# Altium schematic symbol library kmilo17pet-NSC_Interface.SchLib: 1433 symbols (part 20 of 51)
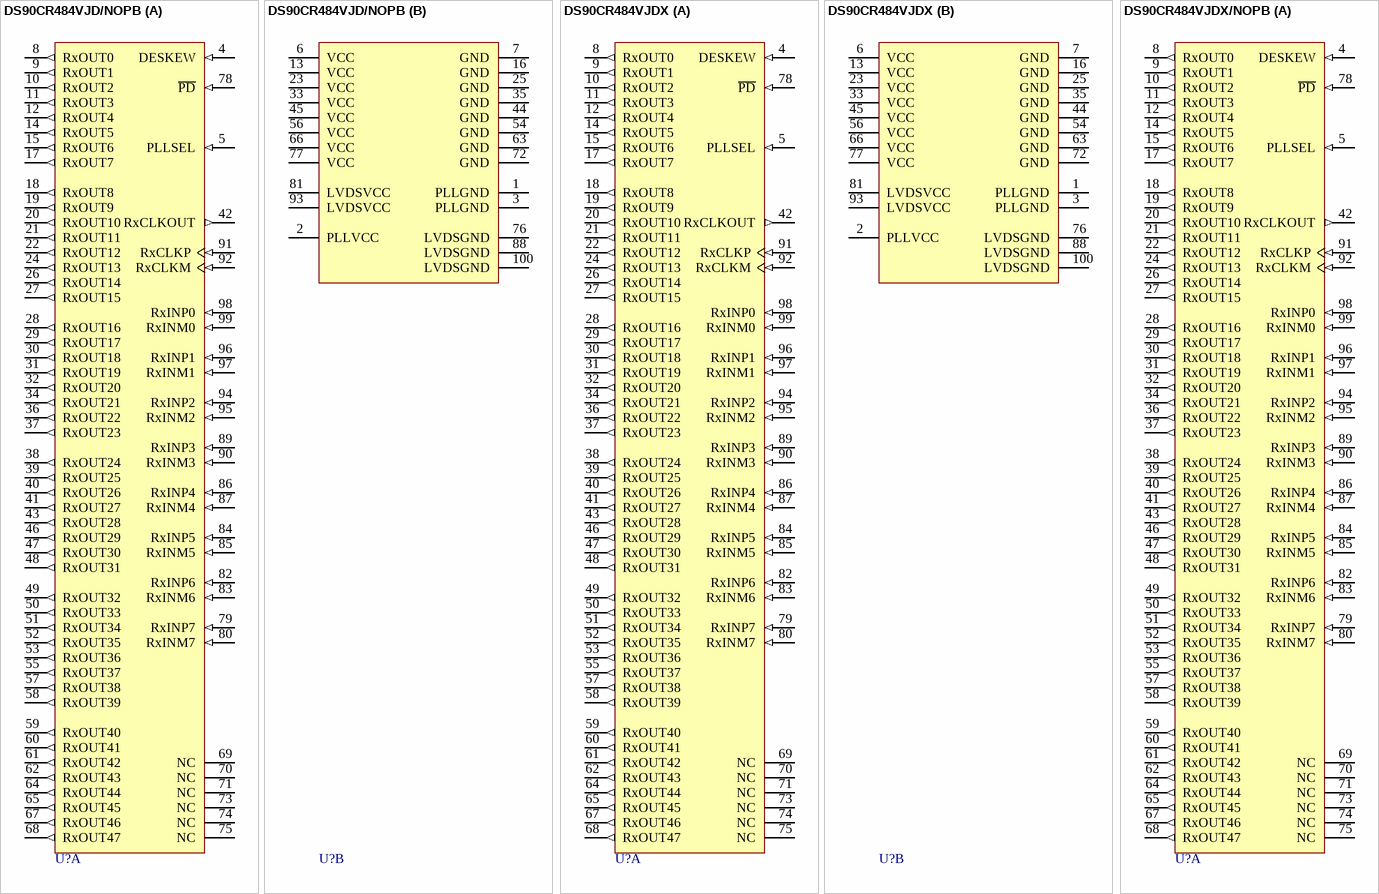
[diagram p143: symbols DS90CR484VJD/NOPB to DS90CR484VJDX/NOPB]

## DS90CR484VJD/NOPB
designator U?
48-Bit Channel Link Deserializer - 33-112MHz, 100 pin TQFP; PartNumber: DS90CR484VJD/NOPB; Manufacturer: National Semiconductor; PackageTopMarking: NS2ZXYYTTE#*DS90CR484VJD*BBBBB; PowerWise: N; CompType: Interface IC; High-Reliability: Y; DatasheetVersion: Mar-2004; PackageVersion: revC, May-2004; PackageReference: VJD100A; PackageDescription: TQFP, Jedec, Metric, 14 x 14 x 1.0mm, 100 Lead; RoHS: Y; PinCount: 100; Code_JEDEC: MS-026-AED; ComponentLink1Description: Manufacturer URL; ComponentLink1URL: http://www.national.com/; ComponentLink2Description: DS90CR484 Datasheet; ComponentLink2URL: http://www.national.com/ds/DS/DS90CR484.pdf; ComponentLink3Description: DS90CR484 Web Page; ComponentLink3URL: http://www.national.com/pf/DS/DS90CR484.html; ComponentLink4Description: VJD100A Package Page; ComponentLink4URL: http://www.national.com/packaging/folders/vjd100a.html
footprint VJD100A_N (Thin QFP, 100-Leads, Body 14x14mm, Pitch 0.5mm, IPC Medium Density)
footprint VJD100A_L (Thin QFP, 100-Leads, Body 14x14mm, Pitch 0.5mm, IPC High Density)
footprint VJD100A_M (Thin QFP, 100-Leads, Body 14x14mm, Pitch 0.5mm, IPC Low Density)
part A pins: 4 DESKEW (in), 5 PLLSEL (in), 8 RxOUT0 (out), 9 RxOUT1 (out), 10 RxOUT2 (out), 11 RxOUT3 (out), 12 RxOUT4 (out), 14 RxOUT5 (out), 15 RxOUT6 (out), 17 RxOUT7 (out), 18 RxOUT8 (out), 19 RxOUT9 (out), 20 RxOUT10 (out), 21 RxOUT11 (out), 22 RxOUT12 (out), 24 RxOUT13 (out), 26 RxOUT14 (out), 27 RxOUT15 (out), 28 RxOUT16 (out), 29 RxOUT17 (out), 30 RxOUT18 (out), 31 RxOUT19 (out), 32 RxOUT20 (out), 34 RxOUT21 (out), 36 RxOUT22 (out), 37 RxOUT23 (out), 38 RxOUT24 (out), 39 RxOUT25 (out), 40 RxOUT26 (out), 41 RxOUT27 (out), 42 RxCLKOUT (out), 43 RxOUT28 (out), 46 RxOUT29 (out), 47 RxOUT30 (out), 48 RxOUT31 (out), 49 RxOUT32 (out), 50 RxOUT33 (out), 51 RxOUT34 (out), 52 RxOUT35 (out), 53 RxOUT36 (out), 55 RxOUT37 (out), 57 RxOUT38 (out), 58 RxOUT39 (out), 59 RxOUT40 (out), 60 RxOUT41 (out), 61 RxOUT42 (out), 62 RxOUT43 (out), 64 RxOUT44 (out), 65 RxOUT45 (out), 67 RxOUT46 (out), 68 RxOUT47 (out), 69 NC, 70 NC, 71 NC, 73 NC, 74 NC, 75 NC, 78 ~{PD} (in), 79 RxINP7 (in), 80 RxINM7 (in), 82 RxINP6 (in), 83 RxINM6 (in), 84 RxINP5 (in), 85 RxINM5 (in), 86 RxINP4 (in), 87 RxINM4 (in), 89 RxINP3 (in), 90 RxINM3 (in), 91 RxCLKP (in), 92 RxCLKM (in), 94 RxINP2 (in), 95 RxINM2 (in), 96 RxINP1 (in), 97 RxINM1 (in), 98 RxINP0 (in), 99 RxINM0 (in)
part B pins: 1 PLLGND (power), 2 PLLVCC (power), 3 PLLGND (power), 6 VCC (power), 7 GND (power), 13 VCC (power), 16 GND (power), 23 VCC (power), 25 GND (power), 33 VCC (power), 35 GND (power), 44 GND (power), 45 VCC (power), 54 GND (power), 56 VCC (power), 63 GND (power), 66 VCC (power), 72 GND (power), 76 LVDSGND (power), 77 VCC (power), 81 LVDSVCC (power), 88 LVDSGND (power), 93 LVDSVCC (power), 100 LVDSGND (power)

## DS90CR484VJDX
designator U?
48-Bit Channel Link Deserializer - 33-112MHz, 100 pin TQFP; PartNumber: DS90CR484VJDX; Manufacturer: National Semiconductor; PackageTopMarking: NS2ZXYYTTE#*DS90CR484VJD*BBBBB; PowerWise: N; CompType: Interface IC; High-Reliability: Y; DatasheetVersion: Mar-2004; PackageVersion: revC, May-2004; PackageReference: VJD100A; PackageDescription: TQFP, Jedec, Metric, 14 x 14 x 1.0mm, 100 Lead; RoHS: N; PinCount: 100; Code_JEDEC: MS-026-AED; ComponentLink1Description: Manufacturer URL; ComponentLink1URL: http://www.national.com/; ComponentLink2Description: DS90CR484 Datasheet; ComponentLink2URL: http://www.national.com/ds/DS/DS90CR484.pdf; ComponentLink3Description: DS90CR484 Web Page; ComponentLink3URL: http://www.national.com/pf/DS/DS90CR484.html; ComponentLink4Description: VJD100A Package Page; ComponentLink4URL: http://www.national.com/packaging/folders/vjd100a.html
footprint VJD100A_N (Thin QFP, 100-Leads, Body 14x14mm, Pitch 0.5mm, IPC Medium Density)
footprint VJD100A_L (Thin QFP, 100-Leads, Body 14x14mm, Pitch 0.5mm, IPC High Density)
footprint VJD100A_M (Thin QFP, 100-Leads, Body 14x14mm, Pitch 0.5mm, IPC Low Density)
part A pins: 4 DESKEW (in), 5 PLLSEL (in), 8 RxOUT0 (out), 9 RxOUT1 (out), 10 RxOUT2 (out), 11 RxOUT3 (out), 12 RxOUT4 (out), 14 RxOUT5 (out), 15 RxOUT6 (out), 17 RxOUT7 (out), 18 RxOUT8 (out), 19 RxOUT9 (out), 20 RxOUT10 (out), 21 RxOUT11 (out), 22 RxOUT12 (out), 24 RxOUT13 (out), 26 RxOUT14 (out), 27 RxOUT15 (out), 28 RxOUT16 (out), 29 RxOUT17 (out), 30 RxOUT18 (out), 31 RxOUT19 (out), 32 RxOUT20 (out), 34 RxOUT21 (out), 36 RxOUT22 (out), 37 RxOUT23 (out), 38 RxOUT24 (out), 39 RxOUT25 (out), 40 RxOUT26 (out), 41 RxOUT27 (out), 42 RxCLKOUT (out), 43 RxOUT28 (out), 46 RxOUT29 (out), 47 RxOUT30 (out), 48 RxOUT31 (out), 49 RxOUT32 (out), 50 RxOUT33 (out), 51 RxOUT34 (out), 52 RxOUT35 (out), 53 RxOUT36 (out), 55 RxOUT37 (out), 57 RxOUT38 (out), 58 RxOUT39 (out), 59 RxOUT40 (out), 60 RxOUT41 (out), 61 RxOUT42 (out), 62 RxOUT43 (out), 64 RxOUT44 (out), 65 RxOUT45 (out), 67 RxOUT46 (out), 68 RxOUT47 (out), 69 NC, 70 NC, 71 NC, 73 NC, 74 NC, 75 NC, 78 ~{PD} (in), 79 RxINP7 (in), 80 RxINM7 (in), 82 RxINP6 (in), 83 RxINM6 (in), 84 RxINP5 (in), 85 RxINM5 (in), 86 RxINP4 (in), 87 RxINM4 (in), 89 RxINP3 (in), 90 RxINM3 (in), 91 RxCLKP (in), 92 RxCLKM (in), 94 RxINP2 (in), 95 RxINM2 (in), 96 RxINP1 (in), 97 RxINM1 (in), 98 RxINP0 (in), 99 RxINM0 (in)
part B pins: 1 PLLGND (power), 2 PLLVCC (power), 3 PLLGND (power), 6 VCC (power), 7 GND (power), 13 VCC (power), 16 GND (power), 23 VCC (power), 25 GND (power), 33 VCC (power), 35 GND (power), 44 GND (power), 45 VCC (power), 54 GND (power), 56 VCC (power), 63 GND (power), 66 VCC (power), 72 GND (power), 76 LVDSGND (power), 77 VCC (power), 81 LVDSVCC (power), 88 LVDSGND (power), 93 LVDSVCC (power), 100 LVDSGND (power)

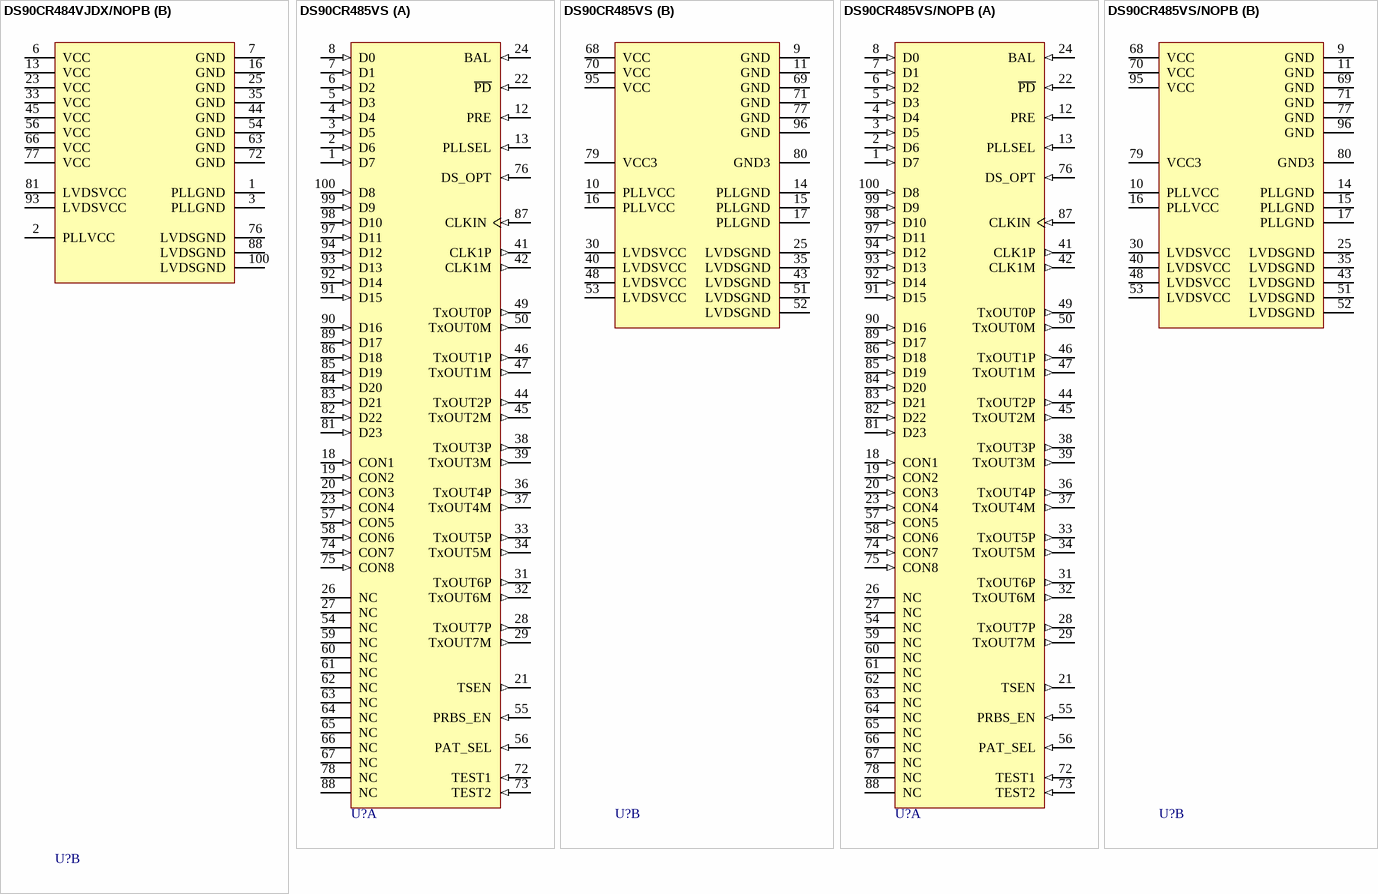
[diagram p56: symbols DS90CR484VJDX/NOPB to DS90CR485VS/NOPB]

## DS90CR484VJDX/NOPB
designator U?
48-Bit Channel Link Deserializer - 33-112MHz, 100 pin TQFP; PartNumber: DS90CR484VJDX/NOPB; Manufacturer: National Semiconductor; PackageTopMarking: NS2ZXYYTTE#*DS90CR484VJD*BBBBB; PowerWise: N; CompType: Interface IC; High-Reliability: Y; DatasheetVersion: Mar-2004; PackageVersion: revC, May-2004; PackageReference: VJD100A; PackageDescription: TQFP, Jedec, Metric, 14 x 14 x 1.0mm, 100 Lead; RoHS: Y; PinCount: 100; Code_JEDEC: MS-026-AED; ComponentLink1Description: Manufacturer URL; ComponentLink1URL: http://www.national.com/; ComponentLink2Description: DS90CR484 Datasheet; ComponentLink2URL: http://www.national.com/ds/DS/DS90CR484.pdf; ComponentLink3Description: DS90CR484 Web Page; ComponentLink3URL: http://www.national.com/pf/DS/DS90CR484.html; ComponentLink4Description: VJD100A Package Page; ComponentLink4URL: http://www.national.com/packaging/folders/vjd100a.html
footprint VJD100A_N (Thin QFP, 100-Leads, Body 14x14mm, Pitch 0.5mm, IPC Medium Density)
footprint VJD100A_L (Thin QFP, 100-Leads, Body 14x14mm, Pitch 0.5mm, IPC High Density)
footprint VJD100A_M (Thin QFP, 100-Leads, Body 14x14mm, Pitch 0.5mm, IPC Low Density)
part A pins: 4 DESKEW (in), 5 PLLSEL (in), 8 RxOUT0 (out), 9 RxOUT1 (out), 10 RxOUT2 (out), 11 RxOUT3 (out), 12 RxOUT4 (out), 14 RxOUT5 (out), 15 RxOUT6 (out), 17 RxOUT7 (out), 18 RxOUT8 (out), 19 RxOUT9 (out), 20 RxOUT10 (out), 21 RxOUT11 (out), 22 RxOUT12 (out), 24 RxOUT13 (out), 26 RxOUT14 (out), 27 RxOUT15 (out), 28 RxOUT16 (out), 29 RxOUT17 (out), 30 RxOUT18 (out), 31 RxOUT19 (out), 32 RxOUT20 (out), 34 RxOUT21 (out), 36 RxOUT22 (out), 37 RxOUT23 (out), 38 RxOUT24 (out), 39 RxOUT25 (out), 40 RxOUT26 (out), 41 RxOUT27 (out), 42 RxCLKOUT (out), 43 RxOUT28 (out), 46 RxOUT29 (out), 47 RxOUT30 (out), 48 RxOUT31 (out), 49 RxOUT32 (out), 50 RxOUT33 (out), 51 RxOUT34 (out), 52 RxOUT35 (out), 53 RxOUT36 (out), 55 RxOUT37 (out), 57 RxOUT38 (out), 58 RxOUT39 (out), 59 RxOUT40 (out), 60 RxOUT41 (out), 61 RxOUT42 (out), 62 RxOUT43 (out), 64 RxOUT44 (out), 65 RxOUT45 (out), 67 RxOUT46 (out), 68 RxOUT47 (out), 69 NC, 70 NC, 71 NC, 73 NC, 74 NC, 75 NC, 78 ~{PD} (in), 79 RxINP7 (in), 80 RxINM7 (in), 82 RxINP6 (in), 83 RxINM6 (in), 84 RxINP5 (in), 85 RxINM5 (in), 86 RxINP4 (in), 87 RxINM4 (in), 89 RxINP3 (in), 90 RxINM3 (in), 91 RxCLKP (in), 92 RxCLKM (in), 94 RxINP2 (in), 95 RxINM2 (in), 96 RxINP1 (in), 97 RxINM1 (in), 98 RxINP0 (in), 99 RxINM0 (in)
part B pins: 1 PLLGND (power), 2 PLLVCC (power), 3 PLLGND (power), 6 VCC (power), 7 GND (power), 13 VCC (power), 16 GND (power), 23 VCC (power), 25 GND (power), 33 VCC (power), 35 GND (power), 44 GND (power), 45 VCC (power), 54 GND (power), 56 VCC (power), 63 GND (power), 66 VCC (power), 72 GND (power), 76 LVDSGND (power), 77 VCC (power), 81 LVDSVCC (power), 88 LVDSGND (power), 93 LVDSVCC (power), 100 LVDSGND (power)

## DS90CR485VS
designator U?
133MHz LVDS 48-bit Channel Link Serializer, 100-pin TQFP; PartNumber: DS90CR485VS; Manufacturer: National Semiconductor; PackageTopMarking: NSUZXYYTTE#*DS90CR485VS*BBBBB; PowerWise: N; CompType: Interface IC; High-Reliability: Y; DatasheetVersion: Sep-2003; PackageVersion: revC, May-2004; PackageReference: VJD100A; PackageDescription: TQFP, Jedec, Metric, 14 x 14 x 1.0mm, 100 Lead; RoHS: N; PinCount: 100; Code_JEDEC: MS-026-AED; ComponentLink1Description: Manufacturer URL; ComponentLink1URL: http://www.national.com/; ComponentLink2Description: DS90CR485 Datasheet; ComponentLink2URL: http://www.national.com/ds/DS/DS90CR485.pdf; ComponentLink3Description: DS90CR485 Web Page; ComponentLink3URL: http://www.national.com/pf/DS/DS90CR485.html; ComponentLink4Description: VJD100A Package Page; ComponentLink4URL: http://www.national.com/packaging/folders/vjd100a.html
footprint VJD100A_N (Thin QFP, 100-Leads, Body 14x14mm, Pitch 0.5mm, IPC Medium Density)
footprint VJD100A_L (Thin QFP, 100-Leads, Body 14x14mm, Pitch 0.5mm, IPC High Density)
footprint VJD100A_M (Thin QFP, 100-Leads, Body 14x14mm, Pitch 0.5mm, IPC Low Density)
part A pins: 1 D7 (in), 2 D6 (in), 3 D5 (in), 4 D4 (in), 5 D3 (in), 6 D2 (in), 7 D1 (in), 8 D0 (in), 12 PRE (in), 13 PLLSEL (in), 18 CON1 (in), 19 CON2 (in), 20 CON3 (in), 21 TSEN (out), 22 ~{PD} (in), 23 CON4 (in), 24 BAL (in), 26 NC, 27 NC, 28 TxOUT7P (out), 29 TxOUT7M (out), 31 TxOUT6P (out), 32 TxOUT6M (out), 33 TxOUT5P (out), 34 TxOUT5M (out), 36 TxOUT4P (out), 37 TxOUT4M (out), 38 TxOUT3P (out), 39 TxOUT3M (out), 41 CLK1P (out), 42 CLK1M (out), 44 TxOUT2P (out), 45 TxOUT2M (out), 46 TxOUT1P (out), 47 TxOUT1M (out), 49 TxOUT0P (out), 50 TxOUT0M (out), 54 NC, 55 PRBS_EN (in), 56 PAT_SEL (in), 57 CON5 (in), 58 CON6 (in), 59 NC, 60 NC, 61 NC, 62 NC, 63 NC, 64 NC, 65 NC, 66 NC, 67 NC, 72 TEST1 (in), 73 TEST2 (in), 74 CON7 (in), 75 CON8 (in), 76 DS_OPT (in), 78 NC, 81 D23 (in), 82 D22 (in), 83 D21 (in), 84 D20 (in), 85 D19 (in), 86 D18 (in), 87 CLKIN (in), 88 NC, 89 D17 (in), 90 D16 (in), 91 D15 (in), 92 D14 (in), 93 D13 (in), 94 D12 (in), 97 D11 (in), 98 D10 (in), 99 D9 (in), 100 D8 (in)
part B pins: 9 GND (power), 10 PLLVCC (power), 11 GND (power), 14 PLLGND (power), 15 PLLGND (power), 16 PLLVCC (power), 17 PLLGND (power), 25 LVDSGND (power), 30 LVDSVCC (power), 35 LVDSGND (power), 40 LVDSVCC (power), 43 LVDSGND (power), 48 LVDSVCC (power), 51 LVDSGND (power), 52 LVDSGND (power), 53 LVDSVCC (power), 68 VCC (power), 69 GND (power), 70 VCC (power), 71 GND (power), 77 GND (power), 79 VCC3 (power), 80 GND3 (power), 95 VCC (power), 96 GND (power)

## DS90CR485VS/NOPB
designator U?
133MHz LVDS 48-bit Channel Link Serializer, 100-pin TQFP, Pb-Free; PartNumber: DS90CR485VS/NOPB; Manufacturer: National Semiconductor; PackageTopMarking: NSUZXYYTTE#*DS90CR485VS*BBBBB; PowerWise: N; CompType: Interface IC; High-Reliability: Y; DatasheetVersion: Sep-2003; PackageVersion: revC, May-2004; PackageReference: VJD100A; PackageDescription: TQFP, Jedec, Metric, 14 x 14 x 1.0mm, 100 Lead; RoHS: Y; PinCount: 100; Code_JEDEC: MS-026-AED; ComponentLink1Description: Manufacturer URL; ComponentLink1URL: http://www.national.com/; ComponentLink2Description: DS90CR485 Datasheet; ComponentLink2URL: http://www.national.com/ds/DS/DS90CR485.pdf; ComponentLink3Description: DS90CR485 Web Page; ComponentLink3URL: http://www.national.com/pf/DS/DS90CR485.html; ComponentLink4Description: VJD100A Package Page; ComponentLink4URL: http://www.national.com/packaging/folders/vjd100a.html
footprint VJD100A_N (Thin QFP, 100-Leads, Body 14x14mm, Pitch 0.5mm, IPC Medium Density)
footprint VJD100A_L (Thin QFP, 100-Leads, Body 14x14mm, Pitch 0.5mm, IPC High Density)
footprint VJD100A_M (Thin QFP, 100-Leads, Body 14x14mm, Pitch 0.5mm, IPC Low Density)
part A pins: 1 D7 (in), 2 D6 (in), 3 D5 (in), 4 D4 (in), 5 D3 (in), 6 D2 (in), 7 D1 (in), 8 D0 (in), 12 PRE (in), 13 PLLSEL (in), 18 CON1 (in), 19 CON2 (in), 20 CON3 (in), 21 TSEN (out), 22 ~{PD} (in), 23 CON4 (in), 24 BAL (in), 26 NC, 27 NC, 28 TxOUT7P (out), 29 TxOUT7M (out), 31 TxOUT6P (out), 32 TxOUT6M (out), 33 TxOUT5P (out), 34 TxOUT5M (out), 36 TxOUT4P (out), 37 TxOUT4M (out), 38 TxOUT3P (out), 39 TxOUT3M (out), 41 CLK1P (out), 42 CLK1M (out), 44 TxOUT2P (out), 45 TxOUT2M (out), 46 TxOUT1P (out), 47 TxOUT1M (out), 49 TxOUT0P (out), 50 TxOUT0M (out), 54 NC, 55 PRBS_EN (in), 56 PAT_SEL (in), 57 CON5 (in), 58 CON6 (in), 59 NC, 60 NC, 61 NC, 62 NC, 63 NC, 64 NC, 65 NC, 66 NC, 67 NC, 72 TEST1 (in), 73 TEST2 (in), 74 CON7 (in), 75 CON8 (in), 76 DS_OPT (in), 78 NC, 81 D23 (in), 82 D22 (in), 83 D21 (in), 84 D20 (in), 85 D19 (in), 86 D18 (in), 87 CLKIN (in), 88 NC, 89 D17 (in), 90 D16 (in), 91 D15 (in), 92 D14 (in), 93 D13 (in), 94 D12 (in), 97 D11 (in), 98 D10 (in), 99 D9 (in), 100 D8 (in)
part B pins: 9 GND (power), 10 PLLVCC (power), 11 GND (power), 14 PLLGND (power), 15 PLLGND (power), 16 PLLVCC (power), 17 PLLGND (power), 25 LVDSGND (power), 30 LVDSVCC (power), 35 LVDSGND (power), 40 LVDSVCC (power), 43 LVDSGND (power), 48 LVDSVCC (power), 51 LVDSGND (power), 52 LVDSGND (power), 53 LVDSVCC (power), 68 VCC (power), 69 GND (power), 70 VCC (power), 71 GND (power), 77 GND (power), 79 VCC3 (power), 80 GND3 (power), 95 VCC (power), 96 GND (power)

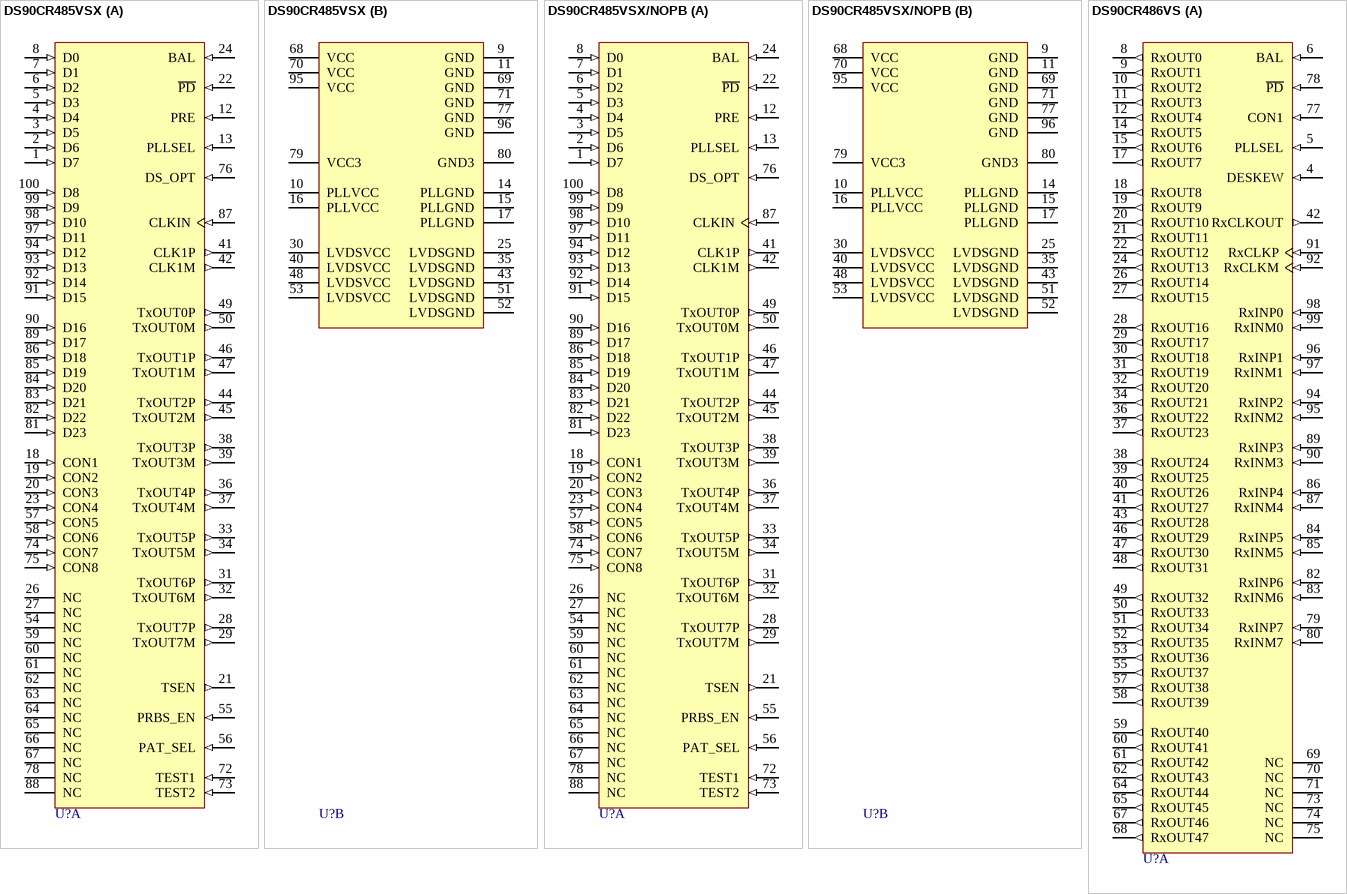
[diagram p57: symbols DS90CR485VSX to DS90CR486VS]

## DS90CR485VSX
designator U?
133MHz LVDS 48-bit Channel Link Serializer, 100-pin TQFP; PartNumber: DS90CR485VSX; Manufacturer: National Semiconductor; PackageTopMarking: NSUZXYYTTE#*DS90CR485VS*BBBBB; PowerWise: N; CompType: Interface IC; High-Reliability: Y; DatasheetVersion: Sep-2003; PackageVersion: revC, May-2004; PackageReference: VJD100A; PackageDescription: TQFP, Jedec, Metric, 14 x 14 x 1.0mm, 100 Lead; RoHS: N; PinCount: 100; Code_JEDEC: MS-026-AED; ComponentLink1Description: Manufacturer URL; ComponentLink1URL: http://www.national.com/; ComponentLink2Description: DS90CR485 Datasheet; ComponentLink2URL: http://www.national.com/ds/DS/DS90CR485.pdf; ComponentLink3Description: DS90CR485 Web Page; ComponentLink3URL: http://www.national.com/pf/DS/DS90CR485.html; ComponentLink4Description: VJD100A Package Page; ComponentLink4URL: http://www.national.com/packaging/folders/vjd100a.html
footprint VJD100A_N (Thin QFP, 100-Leads, Body 14x14mm, Pitch 0.5mm, IPC Medium Density)
footprint VJD100A_L (Thin QFP, 100-Leads, Body 14x14mm, Pitch 0.5mm, IPC High Density)
footprint VJD100A_M (Thin QFP, 100-Leads, Body 14x14mm, Pitch 0.5mm, IPC Low Density)
part A pins: 1 D7 (in), 2 D6 (in), 3 D5 (in), 4 D4 (in), 5 D3 (in), 6 D2 (in), 7 D1 (in), 8 D0 (in), 12 PRE (in), 13 PLLSEL (in), 18 CON1 (in), 19 CON2 (in), 20 CON3 (in), 21 TSEN (out), 22 ~{PD} (in), 23 CON4 (in), 24 BAL (in), 26 NC, 27 NC, 28 TxOUT7P (out), 29 TxOUT7M (out), 31 TxOUT6P (out), 32 TxOUT6M (out), 33 TxOUT5P (out), 34 TxOUT5M (out), 36 TxOUT4P (out), 37 TxOUT4M (out), 38 TxOUT3P (out), 39 TxOUT3M (out), 41 CLK1P (out), 42 CLK1M (out), 44 TxOUT2P (out), 45 TxOUT2M (out), 46 TxOUT1P (out), 47 TxOUT1M (out), 49 TxOUT0P (out), 50 TxOUT0M (out), 54 NC, 55 PRBS_EN (in), 56 PAT_SEL (in), 57 CON5 (in), 58 CON6 (in), 59 NC, 60 NC, 61 NC, 62 NC, 63 NC, 64 NC, 65 NC, 66 NC, 67 NC, 72 TEST1 (in), 73 TEST2 (in), 74 CON7 (in), 75 CON8 (in), 76 DS_OPT (in), 78 NC, 81 D23 (in), 82 D22 (in), 83 D21 (in), 84 D20 (in), 85 D19 (in), 86 D18 (in), 87 CLKIN (in), 88 NC, 89 D17 (in), 90 D16 (in), 91 D15 (in), 92 D14 (in), 93 D13 (in), 94 D12 (in), 97 D11 (in), 98 D10 (in), 99 D9 (in), 100 D8 (in)
part B pins: 9 GND (power), 10 PLLVCC (power), 11 GND (power), 14 PLLGND (power), 15 PLLGND (power), 16 PLLVCC (power), 17 PLLGND (power), 25 LVDSGND (power), 30 LVDSVCC (power), 35 LVDSGND (power), 40 LVDSVCC (power), 43 LVDSGND (power), 48 LVDSVCC (power), 51 LVDSGND (power), 52 LVDSGND (power), 53 LVDSVCC (power), 68 VCC (power), 69 GND (power), 70 VCC (power), 71 GND (power), 77 GND (power), 79 VCC3 (power), 80 GND3 (power), 95 VCC (power), 96 GND (power)

## DS90CR485VSX/NOPB
designator U?
133MHz LVDS 48-bit Channel Link Serializer, 100-pin TQFP, Pb-Free; PartNumber: DS90CR485VSX/NOPB; Manufacturer: National Semiconductor; PackageTopMarking: NSUZXYYTTE#*DS90CR485VS*BBBBB; PowerWise: N; CompType: Interface IC; High-Reliability: Y; DatasheetVersion: Sep-2003; PackageVersion: revC, May-2004; PackageReference: VJD100A; PackageDescription: TQFP, Jedec, Metric, 14 x 14 x 1.0mm, 100 Lead; RoHS: Y; PinCount: 100; Code_JEDEC: MS-026-AED; ComponentLink1Description: Manufacturer URL; ComponentLink1URL: http://www.national.com/; ComponentLink2Description: DS90CR485 Datasheet; ComponentLink2URL: http://www.national.com/ds/DS/DS90CR485.pdf; ComponentLink3Description: DS90CR485 Web Page; ComponentLink3URL: http://www.national.com/pf/DS/DS90CR485.html; ComponentLink4Description: VJD100A Package Page; ComponentLink4URL: http://www.national.com/packaging/folders/vjd100a.html
footprint VJD100A_N (Thin QFP, 100-Leads, Body 14x14mm, Pitch 0.5mm, IPC Medium Density)
footprint VJD100A_L (Thin QFP, 100-Leads, Body 14x14mm, Pitch 0.5mm, IPC High Density)
footprint VJD100A_M (Thin QFP, 100-Leads, Body 14x14mm, Pitch 0.5mm, IPC Low Density)
part A pins: 1 D7 (in), 2 D6 (in), 3 D5 (in), 4 D4 (in), 5 D3 (in), 6 D2 (in), 7 D1 (in), 8 D0 (in), 12 PRE (in), 13 PLLSEL (in), 18 CON1 (in), 19 CON2 (in), 20 CON3 (in), 21 TSEN (out), 22 ~{PD} (in), 23 CON4 (in), 24 BAL (in), 26 NC, 27 NC, 28 TxOUT7P (out), 29 TxOUT7M (out), 31 TxOUT6P (out), 32 TxOUT6M (out), 33 TxOUT5P (out), 34 TxOUT5M (out), 36 TxOUT4P (out), 37 TxOUT4M (out), 38 TxOUT3P (out), 39 TxOUT3M (out), 41 CLK1P (out), 42 CLK1M (out), 44 TxOUT2P (out), 45 TxOUT2M (out), 46 TxOUT1P (out), 47 TxOUT1M (out), 49 TxOUT0P (out), 50 TxOUT0M (out), 54 NC, 55 PRBS_EN (in), 56 PAT_SEL (in), 57 CON5 (in), 58 CON6 (in), 59 NC, 60 NC, 61 NC, 62 NC, 63 NC, 64 NC, 65 NC, 66 NC, 67 NC, 72 TEST1 (in), 73 TEST2 (in), 74 CON7 (in), 75 CON8 (in), 76 DS_OPT (in), 78 NC, 81 D23 (in), 82 D22 (in), 83 D21 (in), 84 D20 (in), 85 D19 (in), 86 D18 (in), 87 CLKIN (in), 88 NC, 89 D17 (in), 90 D16 (in), 91 D15 (in), 92 D14 (in), 93 D13 (in), 94 D12 (in), 97 D11 (in), 98 D10 (in), 99 D9 (in), 100 D8 (in)
part B pins: 9 GND (power), 10 PLLVCC (power), 11 GND (power), 14 PLLGND (power), 15 PLLGND (power), 16 PLLVCC (power), 17 PLLGND (power), 25 LVDSGND (power), 30 LVDSVCC (power), 35 LVDSGND (power), 40 LVDSVCC (power), 43 LVDSGND (power), 48 LVDSVCC (power), 51 LVDSGND (power), 52 LVDSGND (power), 53 LVDSVCC (power), 68 VCC (power), 69 GND (power), 70 VCC (power), 71 GND (power), 77 GND (power), 79 VCC3 (power), 80 GND3 (power), 95 VCC (power), 96 GND (power)

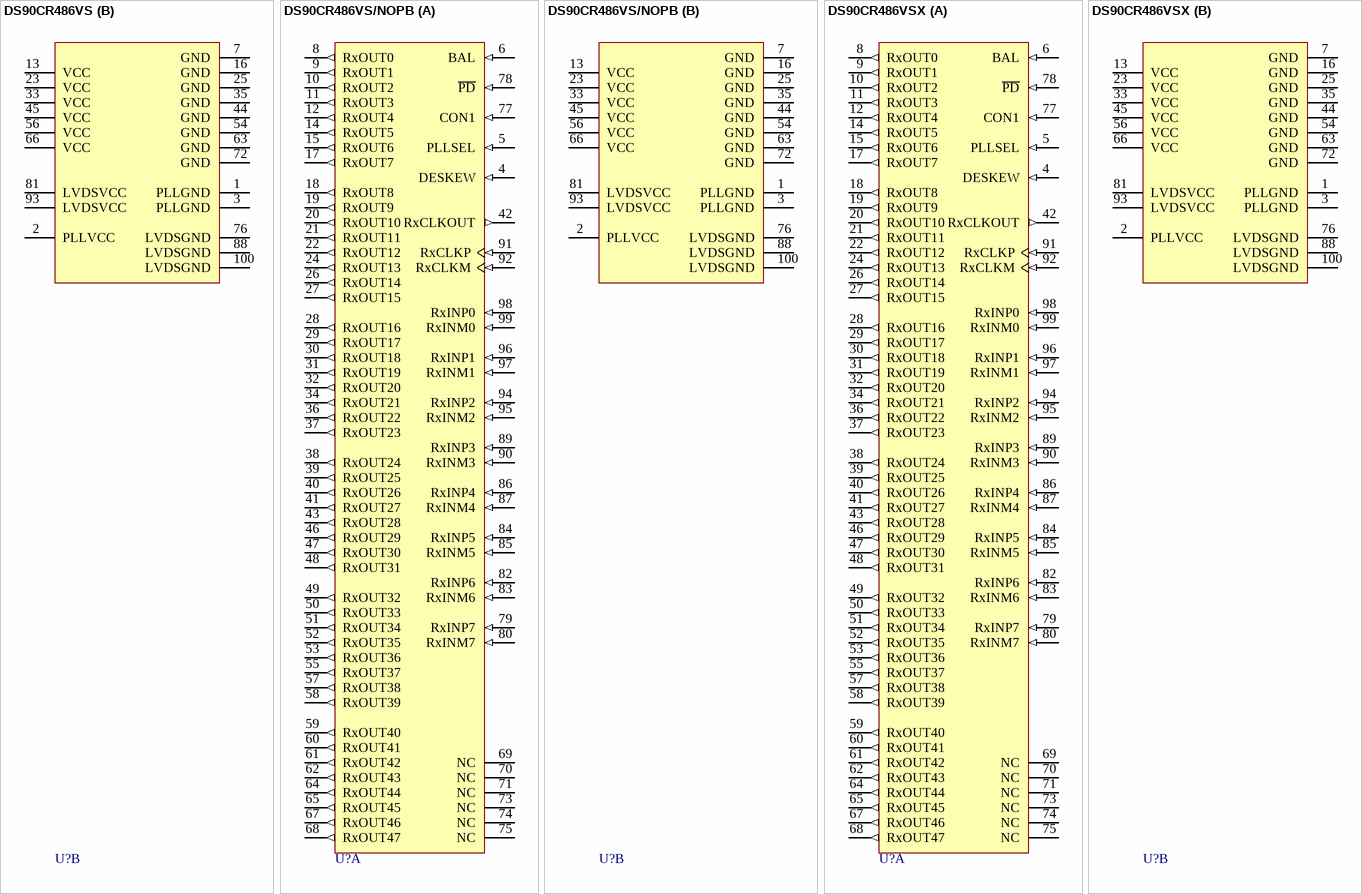
[diagram p58: symbols DS90CR486VS to DS90CR486VSX]

## DS90CR486VS
designator U?
Deserializer, 100-pin TQFP; PartNumber: DS90CR486VS; Manufacturer: National Semiconductor; PackageTopMarking: NS2ZXYYTTE#*DS90CR486VS*BBBBB; PowerWise: N; CompType: Interface IC; High-Reliability: Y; DatasheetVersion: Nov-2006; PackageVersion: revC, May-2004; PackageReference: VJD100A; PackageDescription: TQFP, Jedec, Metric, 14 x 14 x 1.0mm, 100 Lead; RoHS: N; PinCount: 100; Code_JEDEC: MS-026-AED; ComponentLink1Description: Manufacturer URL; ComponentLink1URL: http://www.national.com/; ComponentLink2Description: DS90CR486 Datasheet; ComponentLink2URL: http://www.national.com/ds/DS/DS90CR486.pdf; ComponentLink3Description: DS90CR486 Web Page; ComponentLink3URL: http://www.national.com/pf/DS/DS90CR486.html; ComponentLink4Description: VJD100A Package Page; ComponentLink4URL: http://www.national.com/packaging/folders/vjd100a.html
footprint VJD100A_N (Thin QFP, 100-Leads, Body 14x14mm, Pitch 0.5mm, IPC Medium Density)
footprint VJD100A_L (Thin QFP, 100-Leads, Body 14x14mm, Pitch 0.5mm, IPC High Density)
footprint VJD100A_M (Thin QFP, 100-Leads, Body 14x14mm, Pitch 0.5mm, IPC Low Density)
part A pins: 4 DESKEW (in), 5 PLLSEL (in), 6 BAL (in), 8 RxOUT0 (out), 9 RxOUT1 (out), 10 RxOUT2 (out), 11 RxOUT3 (out), 12 RxOUT4 (out), 14 RxOUT5 (out), 15 RxOUT6 (out), 17 RxOUT7 (out), 18 RxOUT8 (out), 19 RxOUT9 (out), 20 RxOUT10 (out), 21 RxOUT11 (out), 22 RxOUT12 (out), 24 RxOUT13 (out), 26 RxOUT14 (out), 27 RxOUT15 (out), 28 RxOUT16 (out), 29 RxOUT17 (out), 30 RxOUT18 (out), 31 RxOUT19 (out), 32 RxOUT20 (out), 34 RxOUT21 (out), 36 RxOUT22 (out), 37 RxOUT23 (out), 38 RxOUT24 (out), 39 RxOUT25 (out), 40 RxOUT26 (out), 41 RxOUT27 (out), 42 RxCLKOUT (out), 43 RxOUT28 (out), 46 RxOUT29 (out), 47 RxOUT30 (out), 48 RxOUT31 (out), 49 RxOUT32 (out), 50 RxOUT33 (out), 51 RxOUT34 (out), 52 RxOUT35 (out), 53 RxOUT36 (out), 55 RxOUT37 (out), 57 RxOUT38 (out), 58 RxOUT39 (out), 59 RxOUT40 (out), 60 RxOUT41 (out), 61 RxOUT42 (out), 62 RxOUT43 (out), 64 RxOUT44 (out), 65 RxOUT45 (out), 67 RxOUT46 (out), 68 RxOUT47 (out), 69 NC, 70 NC, 71 NC, 73 NC, 74 NC, 75 NC, 77 CON1 (in), 78 ~{PD} (in), 79 RxINP7 (in), 80 RxINM7 (in), 82 RxINP6 (in), 83 RxINM6 (in), 84 RxINP5 (in), 85 RxINM5 (in), 86 RxINP4 (in), 87 RxINM4 (in), 89 RxINP3 (in), 90 RxINM3 (in), 91 RxCLKP (in), 92 RxCLKM (in), 94 RxINP2 (in), 95 RxINM2 (in), 96 RxINP1 (in), 97 RxINM1 (in), 98 RxINP0 (in), 99 RxINM0 (in)
part B pins: 1 PLLGND (power), 2 PLLVCC (power), 3 PLLGND (power), 7 GND (power), 13 VCC (power), 16 GND (power), 23 VCC (power), 25 GND (power), 33 VCC (power), 35 GND (power), 44 GND (power), 45 VCC (power), 54 GND (power), 56 VCC (power), 63 GND (power), 66 VCC (power), 72 GND (power), 76 LVDSGND (power), 81 LVDSVCC (power), 88 LVDSGND (power), 93 LVDSVCC (power), 100 LVDSGND (power)

## DS90CR486VS/NOPB
designator U?
Deserializer, 100-pin TQFP, Pb-Free; PartNumber: DS90CR486VS/NOPB; Manufacturer: National Semiconductor; PackageTopMarking: NS2ZXYYTTE#*DS90CR486VS*BBBBB; PowerWise: N; CompType: Interface IC; High-Reliability: Y; DatasheetVersion: Nov-2006; PackageVersion: revC, May-2004; PackageReference: VJD100A; PackageDescription: TQFP, Jedec, Metric, 14 x 14 x 1.0mm, 100 Lead; RoHS: Y; PinCount: 100; Code_JEDEC: MS-026-AED; ComponentLink1Description: Manufacturer URL; ComponentLink1URL: http://www.national.com/; ComponentLink2Description: DS90CR486 Datasheet; ComponentLink2URL: http://www.national.com/ds/DS/DS90CR486.pdf; ComponentLink3Description: DS90CR486 Web Page; ComponentLink3URL: http://www.national.com/pf/DS/DS90CR486.html; ComponentLink4Description: VJD100A Package Page; ComponentLink4URL: http://www.national.com/packaging/folders/vjd100a.html
footprint VJD100A_N (Thin QFP, 100-Leads, Body 14x14mm, Pitch 0.5mm, IPC Medium Density)
footprint VJD100A_L (Thin QFP, 100-Leads, Body 14x14mm, Pitch 0.5mm, IPC High Density)
footprint VJD100A_M (Thin QFP, 100-Leads, Body 14x14mm, Pitch 0.5mm, IPC Low Density)
part A pins: 4 DESKEW (in), 5 PLLSEL (in), 6 BAL (in), 8 RxOUT0 (out), 9 RxOUT1 (out), 10 RxOUT2 (out), 11 RxOUT3 (out), 12 RxOUT4 (out), 14 RxOUT5 (out), 15 RxOUT6 (out), 17 RxOUT7 (out), 18 RxOUT8 (out), 19 RxOUT9 (out), 20 RxOUT10 (out), 21 RxOUT11 (out), 22 RxOUT12 (out), 24 RxOUT13 (out), 26 RxOUT14 (out), 27 RxOUT15 (out), 28 RxOUT16 (out), 29 RxOUT17 (out), 30 RxOUT18 (out), 31 RxOUT19 (out), 32 RxOUT20 (out), 34 RxOUT21 (out), 36 RxOUT22 (out), 37 RxOUT23 (out), 38 RxOUT24 (out), 39 RxOUT25 (out), 40 RxOUT26 (out), 41 RxOUT27 (out), 42 RxCLKOUT (out), 43 RxOUT28 (out), 46 RxOUT29 (out), 47 RxOUT30 (out), 48 RxOUT31 (out), 49 RxOUT32 (out), 50 RxOUT33 (out), 51 RxOUT34 (out), 52 RxOUT35 (out), 53 RxOUT36 (out), 55 RxOUT37 (out), 57 RxOUT38 (out), 58 RxOUT39 (out), 59 RxOUT40 (out), 60 RxOUT41 (out), 61 RxOUT42 (out), 62 RxOUT43 (out), 64 RxOUT44 (out), 65 RxOUT45 (out), 67 RxOUT46 (out), 68 RxOUT47 (out), 69 NC, 70 NC, 71 NC, 73 NC, 74 NC, 75 NC, 77 CON1 (in), 78 ~{PD} (in), 79 RxINP7 (in), 80 RxINM7 (in), 82 RxINP6 (in), 83 RxINM6 (in), 84 RxINP5 (in), 85 RxINM5 (in), 86 RxINP4 (in), 87 RxINM4 (in), 89 RxINP3 (in), 90 RxINM3 (in), 91 RxCLKP (in), 92 RxCLKM (in), 94 RxINP2 (in), 95 RxINM2 (in), 96 RxINP1 (in), 97 RxINM1 (in), 98 RxINP0 (in), 99 RxINM0 (in)
part B pins: 1 PLLGND (power), 2 PLLVCC (power), 3 PLLGND (power), 7 GND (power), 13 VCC (power), 16 GND (power), 23 VCC (power), 25 GND (power), 33 VCC (power), 35 GND (power), 44 GND (power), 45 VCC (power), 54 GND (power), 56 VCC (power), 63 GND (power), 66 VCC (power), 72 GND (power), 76 LVDSGND (power), 81 LVDSVCC (power), 88 LVDSGND (power), 93 LVDSVCC (power), 100 LVDSGND (power)

## DS90CR486VSX
designator U?
Deserializer, 100-pin TQFP; PartNumber: DS90CR486VSX; Manufacturer: National Semiconductor; PackageTopMarking: NS2ZXYYTTE#*DS90CR486VS*BBBBB; PowerWise: N; CompType: Interface IC; High-Reliability: Y; DatasheetVersion: Nov-2006; PackageVersion: revC, May-2004; PackageReference: VJD100A; PackageDescription: TQFP, Jedec, Metric, 14 x 14 x 1.0mm, 100 Lead; RoHS: N; PinCount: 100; Code_JEDEC: MS-026-AED; ComponentLink1Description: Manufacturer URL; ComponentLink1URL: http://www.national.com/; ComponentLink2Description: DS90CR486 Datasheet; ComponentLink2URL: http://www.national.com/ds/DS/DS90CR486.pdf; ComponentLink3Description: DS90CR486 Web Page; ComponentLink3URL: http://www.national.com/pf/DS/DS90CR486.html; ComponentLink4Description: VJD100A Package Page; ComponentLink4URL: http://www.national.com/packaging/folders/vjd100a.html
footprint VJD100A_N (Thin QFP, 100-Leads, Body 14x14mm, Pitch 0.5mm, IPC Medium Density)
footprint VJD100A_L (Thin QFP, 100-Leads, Body 14x14mm, Pitch 0.5mm, IPC High Density)
footprint VJD100A_M (Thin QFP, 100-Leads, Body 14x14mm, Pitch 0.5mm, IPC Low Density)
part A pins: 4 DESKEW (in), 5 PLLSEL (in), 6 BAL (in), 8 RxOUT0 (out), 9 RxOUT1 (out), 10 RxOUT2 (out), 11 RxOUT3 (out), 12 RxOUT4 (out), 14 RxOUT5 (out), 15 RxOUT6 (out), 17 RxOUT7 (out), 18 RxOUT8 (out), 19 RxOUT9 (out), 20 RxOUT10 (out), 21 RxOUT11 (out), 22 RxOUT12 (out), 24 RxOUT13 (out), 26 RxOUT14 (out), 27 RxOUT15 (out), 28 RxOUT16 (out), 29 RxOUT17 (out), 30 RxOUT18 (out), 31 RxOUT19 (out), 32 RxOUT20 (out), 34 RxOUT21 (out), 36 RxOUT22 (out), 37 RxOUT23 (out), 38 RxOUT24 (out), 39 RxOUT25 (out), 40 RxOUT26 (out), 41 RxOUT27 (out), 42 RxCLKOUT (out), 43 RxOUT28 (out), 46 RxOUT29 (out), 47 RxOUT30 (out), 48 RxOUT31 (out), 49 RxOUT32 (out), 50 RxOUT33 (out), 51 RxOUT34 (out), 52 RxOUT35 (out), 53 RxOUT36 (out), 55 RxOUT37 (out), 57 RxOUT38 (out), 58 RxOUT39 (out), 59 RxOUT40 (out), 60 RxOUT41 (out), 61 RxOUT42 (out), 62 RxOUT43 (out), 64 RxOUT44 (out), 65 RxOUT45 (out), 67 RxOUT46 (out), 68 RxOUT47 (out), 69 NC, 70 NC, 71 NC, 73 NC, 74 NC, 75 NC, 77 CON1 (in), 78 ~{PD} (in), 79 RxINP7 (in), 80 RxINM7 (in), 82 RxINP6 (in), 83 RxINM6 (in), 84 RxINP5 (in), 85 RxINM5 (in), 86 RxINP4 (in), 87 RxINM4 (in), 89 RxINP3 (in), 90 RxINM3 (in), 91 RxCLKP (in), 92 RxCLKM (in), 94 RxINP2 (in), 95 RxINM2 (in), 96 RxINP1 (in), 97 RxINM1 (in), 98 RxINP0 (in), 99 RxINM0 (in)
part B pins: 1 PLLGND (power), 2 PLLVCC (power), 3 PLLGND (power), 7 GND (power), 13 VCC (power), 16 GND (power), 23 VCC (power), 25 GND (power), 33 VCC (power), 35 GND (power), 44 GND (power), 45 VCC (power), 54 GND (power), 56 VCC (power), 63 GND (power), 66 VCC (power), 72 GND (power), 76 LVDSGND (power), 81 LVDSVCC (power), 88 LVDSGND (power), 93 LVDSVCC (power), 100 LVDSGND (power)

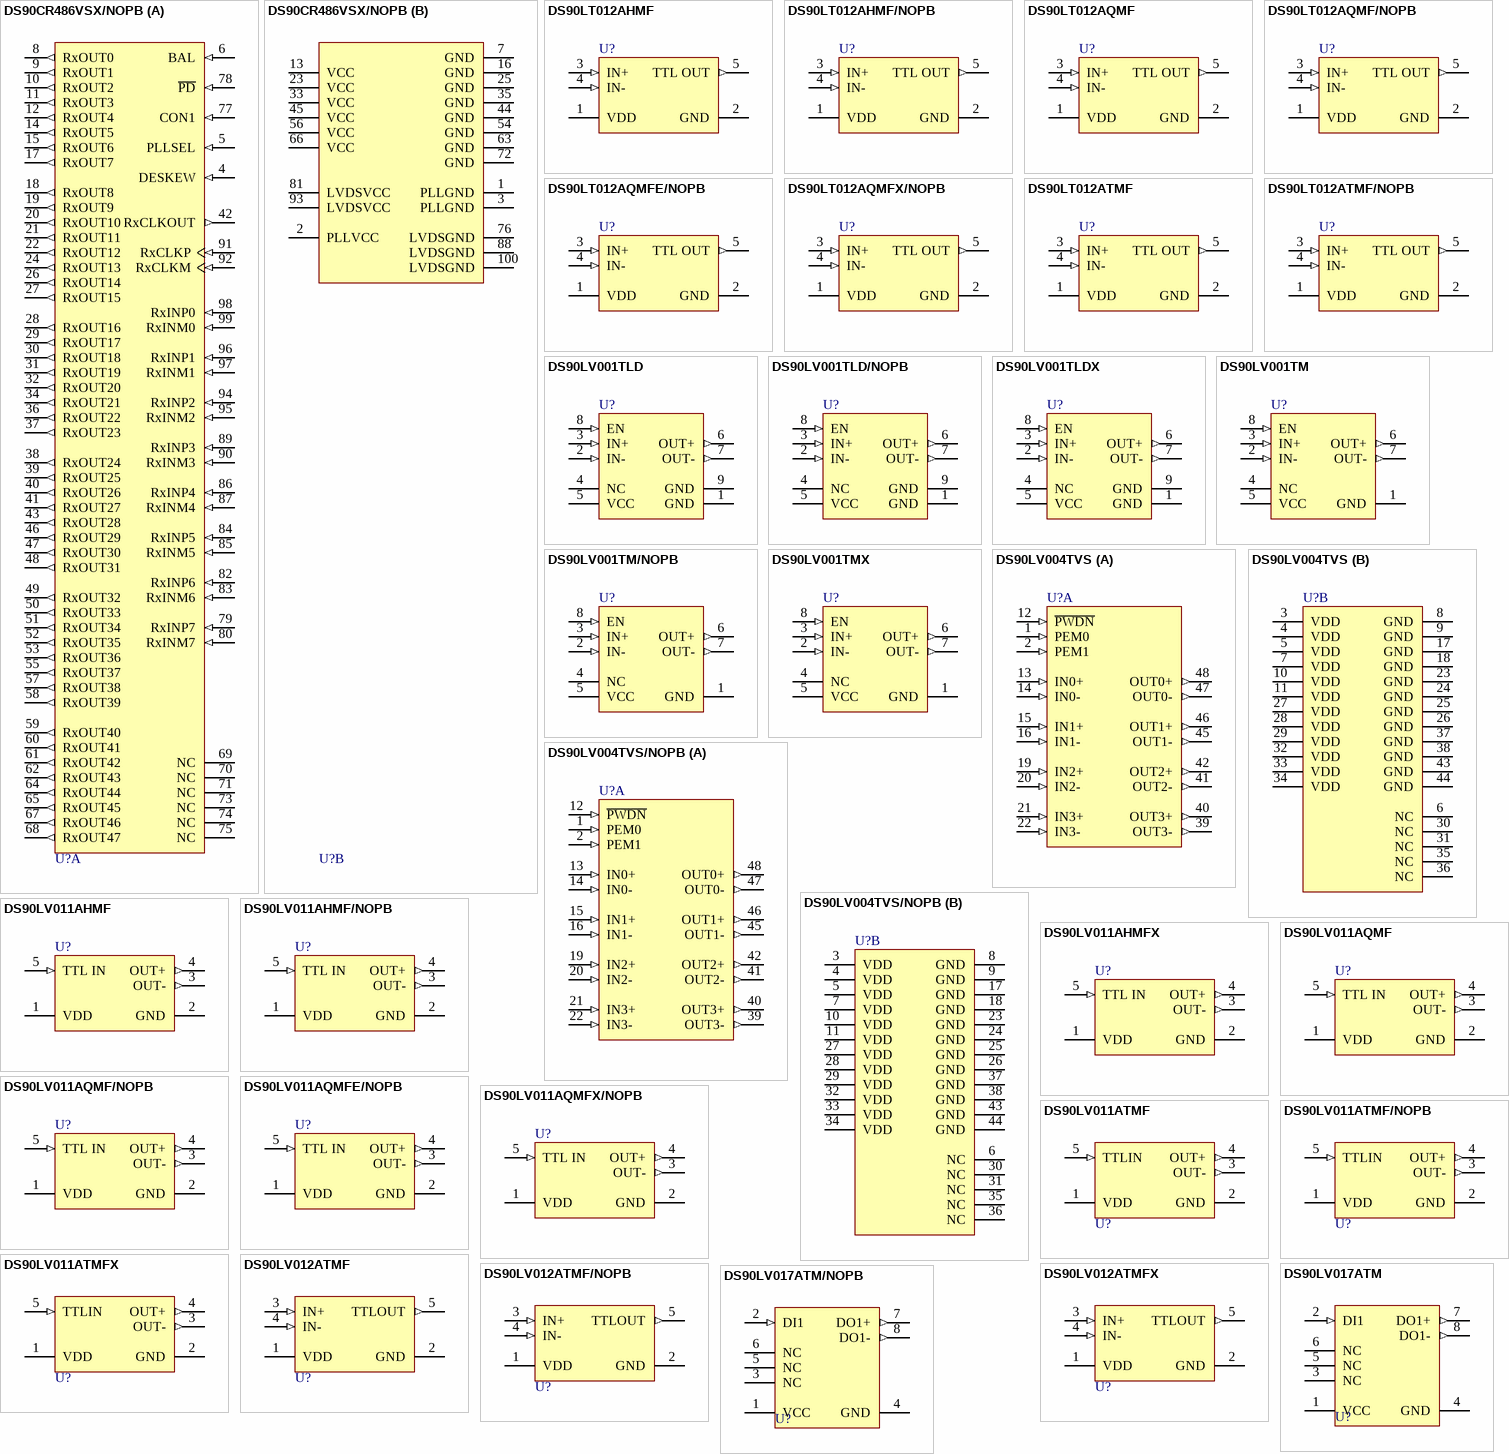
[diagram p59: symbols DS90CR486VSX/NOPB to DS90LV017ATM/NOPB]

## DS90CR486VSX/NOPB
designator U?
Deserializer, 100-pin TQFP, Pb-Free; PartNumber: DS90CR486VSX/NOPB; Manufacturer: National Semiconductor; PackageTopMarking: NS2ZXYYTTE#*DS90CR486VS*BBBBB; PowerWise: N; CompType: Interface IC; High-Reliability: Y; DatasheetVersion: Nov-2006; PackageVersion: revC, May-2004; PackageReference: VJD100A; PackageDescription: TQFP, Jedec, Metric, 14 x 14 x 1.0mm, 100 Lead; RoHS: Y; PinCount: 100; Code_JEDEC: MS-026-AED; ComponentLink1Description: Manufacturer URL; ComponentLink1URL: http://www.national.com/; ComponentLink2Description: DS90CR486 Datasheet; ComponentLink2URL: http://www.national.com/ds/DS/DS90CR486.pdf; ComponentLink3Description: DS90CR486 Web Page; ComponentLink3URL: http://www.national.com/pf/DS/DS90CR486.html; ComponentLink4Description: VJD100A Package Page; ComponentLink4URL: http://www.national.com/packaging/folders/vjd100a.html
footprint VJD100A_N (Thin QFP, 100-Leads, Body 14x14mm, Pitch 0.5mm, IPC Medium Density)
footprint VJD100A_L (Thin QFP, 100-Leads, Body 14x14mm, Pitch 0.5mm, IPC High Density)
footprint VJD100A_M (Thin QFP, 100-Leads, Body 14x14mm, Pitch 0.5mm, IPC Low Density)
part A pins: 4 DESKEW (in), 5 PLLSEL (in), 6 BAL (in), 8 RxOUT0 (out), 9 RxOUT1 (out), 10 RxOUT2 (out), 11 RxOUT3 (out), 12 RxOUT4 (out), 14 RxOUT5 (out), 15 RxOUT6 (out), 17 RxOUT7 (out), 18 RxOUT8 (out), 19 RxOUT9 (out), 20 RxOUT10 (out), 21 RxOUT11 (out), 22 RxOUT12 (out), 24 RxOUT13 (out), 26 RxOUT14 (out), 27 RxOUT15 (out), 28 RxOUT16 (out), 29 RxOUT17 (out), 30 RxOUT18 (out), 31 RxOUT19 (out), 32 RxOUT20 (out), 34 RxOUT21 (out), 36 RxOUT22 (out), 37 RxOUT23 (out), 38 RxOUT24 (out), 39 RxOUT25 (out), 40 RxOUT26 (out), 41 RxOUT27 (out), 42 RxCLKOUT (out), 43 RxOUT28 (out), 46 RxOUT29 (out), 47 RxOUT30 (out), 48 RxOUT31 (out), 49 RxOUT32 (out), 50 RxOUT33 (out), 51 RxOUT34 (out), 52 RxOUT35 (out), 53 RxOUT36 (out), 55 RxOUT37 (out), 57 RxOUT38 (out), 58 RxOUT39 (out), 59 RxOUT40 (out), 60 RxOUT41 (out), 61 RxOUT42 (out), 62 RxOUT43 (out), 64 RxOUT44 (out), 65 RxOUT45 (out), 67 RxOUT46 (out), 68 RxOUT47 (out), 69 NC, 70 NC, 71 NC, 73 NC, 74 NC, 75 NC, 77 CON1 (in), 78 ~{PD} (in), 79 RxINP7 (in), 80 RxINM7 (in), 82 RxINP6 (in), 83 RxINM6 (in), 84 RxINP5 (in), 85 RxINM5 (in), 86 RxINP4 (in), 87 RxINM4 (in), 89 RxINP3 (in), 90 RxINM3 (in), 91 RxCLKP (in), 92 RxCLKM (in), 94 RxINP2 (in), 95 RxINM2 (in), 96 RxINP1 (in), 97 RxINM1 (in), 98 RxINP0 (in), 99 RxINM0 (in)
part B pins: 1 PLLGND (power), 2 PLLVCC (power), 3 PLLGND (power), 7 GND (power), 13 VCC (power), 16 GND (power), 23 VCC (power), 25 GND (power), 33 VCC (power), 35 GND (power), 44 GND (power), 45 VCC (power), 54 GND (power), 56 VCC (power), 63 GND (power), 66 VCC (power), 72 GND (power), 76 LVDSGND (power), 81 LVDSVCC (power), 88 LVDSGND (power), 93 LVDSVCC (power), 100 LVDSGND (power)

## DS90LT012AHMF
designator U?
High Temperature 3V LVDS Differential Line Receiver, 5-pin SOT-23; PartNumber: DS90LT012AHMF; Manufacturer: National Semiconductor; PackageTopMarking: N05*XTT; PowerWise: N; CompType: Interface IC; High-Reliability: Y; DatasheetVersion: Sep-2005; PackageVersion: revD, Aug-2008; PackageReference: MF05A; PackageDescription: Molded SOT-23, .115 x .063 x .040 in Body, 5 Lead, .0375 in Pitch; RoHS: N; PinCount: 5; ComponentLink1Description: Manufacturer URL; ComponentLink1URL: http://www.national.com/; ComponentLink2Description: DS90LT012AH Datasheet; ComponentLink2URL: http://www.national.com/ds/DS/DS90LT012AH.pdf; ComponentLink3Description: DS90LT012AH Web Page; ComponentLink3URL: http://www.national.com/pf/DS/DS90LT012AH.html; ComponentLink4Description: MF05A Package Page; ComponentLink4URL: http://www.national.com/packaging/folders/mf05a.html
footprint MF05A_N (SOT23, 5-Leads, Body 2.9x1.6mm, Pitch 0.95mm, Lead Span 2.8mm, IPC Medium Density)
footprint MF05A_L (SOT23, 5-Leads, Body 2.9x1.6mm, Pitch 0.95mm, Lead Span 2.8mm, IPC High Density)
footprint MF05A_M (SOT23, 5-Leads, Body 2.9x1.6mm, Pitch 0.95mm, Lead Span 2.8mm, IPC Low Density)
pins: 1 VDD (power), 2 GND (power), 3 IN+ (in), 4 IN- (in), 5 TTL OUT (out)

## DS90LT012AHMF/NOPB
designator U?
High Temperature 3V LVDS Differential Line Receiver, 5 pin SOT-23; PartNumber: DS90LT012AHMF/NOPB; Manufacturer: National Semiconductor; PackageTopMarking: N05*XTT; PowerWise: N; CompType: Interface IC; High-Reliability: Y; DatasheetVersion: Sep-2005; PackageVersion: revD, Aug-2008; PackageReference: MF05A; PackageDescription: Molded SOT-23, .115 x .063 x .040 in Body, 5 Lead, .0375 in Pitch; RoHS: Y; PinCount: 5; ComponentLink1Description: Manufacturer URL; ComponentLink1URL: http://www.national.com/; ComponentLink2Description: DS90LT012AH Datasheet; ComponentLink2URL: http://www.national.com/ds/DS/DS90LT012AH.pdf; ComponentLink3Description: DS90LT012AH Web Page; ComponentLink3URL: http://www.national.com/pf/DS/DS90LT012AH.html; ComponentLink4Description: MF05A Package Page; ComponentLink4URL: http://www.national.com/packaging/folders/mf05a.html
footprint MF05A_N (SOT23, 5-Leads, Body 2.9x1.6mm, Pitch 0.95mm, Lead Span 2.8mm, IPC Medium Density)
footprint MF05A_L (SOT23, 5-Leads, Body 2.9x1.6mm, Pitch 0.95mm, Lead Span 2.8mm, IPC High Density)
footprint MF05A_M (SOT23, 5-Leads, Body 2.9x1.6mm, Pitch 0.95mm, Lead Span 2.8mm, IPC Low Density)
pins: 1 VDD (power), 2 GND (power), 3 IN+ (in), 4 IN- (in), 5 TTL OUT (out)

## DS90LT012AQMF
designator U?
Automotive LVDS Differential Line Receiver, 5-pin SOT-23; PartNumber: DS90LT012AQMF; Manufacturer: National Semiconductor; PackageTopMarking: N03Q*XTT; PowerWise: N; CompType: Interface IC; High-Reliability: Y; DatasheetVersion: Oct-2008; PackageVersion: revD, Aug-2008; PackageReference: MF05A; PackageDescription: Molded SOT-23, .115 x .063 x .040 in Body, 5 Lead, .0375 in Pitch; RoHS: Y; PinCount: 5; ComponentLink1Description: Manufacturer URL; ComponentLink1URL: http://www.national.com/; ComponentLink2Description: DS90LT012AQ Datasheet; ComponentLink2URL: http://www.national.com/ds/DS/DS90LT012AQ.pdf; ComponentLink3Description: DS90LT012AQ Web Page; ComponentLink3URL: http://www.national.com/pf/DS/DS90LT012AQ.html; ComponentLink4Description: MF05A Package Page; ComponentLink4URL: http://www.national.com/packaging/folders/mf05a.html
footprint MF05A_N (SOT23, 5-Leads, Body 2.9x1.6mm, Pitch 0.95mm, Lead Span 2.8mm, IPC Medium Density)
footprint MF05A_L (SOT23, 5-Leads, Body 2.9x1.6mm, Pitch 0.95mm, Lead Span 2.8mm, IPC High Density)
footprint MF05A_M (SOT23, 5-Leads, Body 2.9x1.6mm, Pitch 0.95mm, Lead Span 2.8mm, IPC Low Density)
pins: 1 VDD (power), 2 GND (power), 3 IN+ (in), 4 IN- (in), 5 TTL OUT (out)

## DS90LT012AQMF/NOPB
designator U?
Automotive LVDS Differential Line Receiver, 5-pin SOT-23, Pb-Free; PartNumber: DS90LT012AQMF/NOPB; Manufacturer: National Semiconductor; PackageTopMarking: N03Q*XTT; PowerWise: N; CompType: Interface IC; High-Reliability: Y; DatasheetVersion: Oct-2008; PackageVersion: revD, Aug-2008; PackageReference: MF05A; PackageDescription: Molded SOT-23, .115 x .063 x .040 in Body, 5 Lead, .0375 in Pitch; RoHS: Y; PinCount: 5; ComponentLink1Description: Manufacturer URL; ComponentLink1URL: http://www.national.com/; ComponentLink2Description: DS90LT012AQ Datasheet; ComponentLink2URL: http://www.national.com/ds/DS/DS90LT012AQ.pdf; ComponentLink3Description: DS90LT012AQ Web Page; ComponentLink3URL: http://www.national.com/pf/DS/DS90LT012AQ.html; ComponentLink4Description: MF05A Package Page; ComponentLink4URL: http://www.national.com/packaging/folders/mf05a.html
footprint MF05A_N (SOT23, 5-Leads, Body 2.9x1.6mm, Pitch 0.95mm, Lead Span 2.8mm, IPC Medium Density)
footprint MF05A_L (SOT23, 5-Leads, Body 2.9x1.6mm, Pitch 0.95mm, Lead Span 2.8mm, IPC High Density)
footprint MF05A_M (SOT23, 5-Leads, Body 2.9x1.6mm, Pitch 0.95mm, Lead Span 2.8mm, IPC Low Density)
pins: 1 VDD (power), 2 GND (power), 3 IN+ (in), 4 IN- (in), 5 TTL OUT (out)

## DS90LT012AQMFE/NOPB
designator U?
Automotive LVDS Differential Line Receiver, 5-pin SOT-23, Pb-Free; PartNumber: DS90LT012AQMFE/NOPB; Manufacturer: National Semiconductor; PackageTopMarking: N03Q*XTT; PowerWise: N; CompType: Interface IC; High-Reliability: Y; DatasheetVersion: Oct-2008; PackageVersion: revD, Aug-2008; PackageReference: MF05A; PackageDescription: Molded SOT-23, .115 x .063 x .040 in Body, 5 Lead, .0375 in Pitch; RoHS: Y; PinCount: 5; ComponentLink1Description: Manufacturer URL; ComponentLink1URL: http://www.national.com/; ComponentLink2Description: DS90LT012AQ Datasheet; ComponentLink2URL: http://www.national.com/ds/DS/DS90LT012AQ.pdf; ComponentLink3Description: DS90LT012AQ Web Page; ComponentLink3URL: http://www.national.com/pf/DS/DS90LT012AQ.html; ComponentLink4Description: MF05A Package Page; ComponentLink4URL: http://www.national.com/packaging/folders/mf05a.html
footprint MF05A_N (SOT23, 5-Leads, Body 2.9x1.6mm, Pitch 0.95mm, Lead Span 2.8mm, IPC Medium Density)
footprint MF05A_L (SOT23, 5-Leads, Body 2.9x1.6mm, Pitch 0.95mm, Lead Span 2.8mm, IPC High Density)
footprint MF05A_M (SOT23, 5-Leads, Body 2.9x1.6mm, Pitch 0.95mm, Lead Span 2.8mm, IPC Low Density)
pins: 1 VDD (power), 2 GND (power), 3 IN+ (in), 4 IN- (in), 5 TTL OUT (out)

## DS90LT012AQMFX/NOPB
designator U?
Automotive LVDS Differential Line Receiver, 5-pin SOT-23, Pb-Free; PartNumber: DS90LT012AQMFX/NOPB; Manufacturer: National Semiconductor; PackageTopMarking: N03Q*XTT; PowerWise: N; CompType: Interface IC; High-Reliability: Y; DatasheetVersion: Oct-2008; PackageVersion: revD, Aug-2008; PackageReference: MF05A; PackageDescription: Molded SOT-23, .115 x .063 x .040 in Body, 5 Lead, .0375 in Pitch; RoHS: Y; PinCount: 5; ComponentLink1Description: Manufacturer URL; ComponentLink1URL: http://www.national.com/; ComponentLink2Description: DS90LT012AQ Datasheet; ComponentLink2URL: http://www.national.com/ds/DS/DS90LT012AQ.pdf; ComponentLink3Description: DS90LT012AQ Web Page; ComponentLink3URL: http://www.national.com/pf/DS/DS90LT012AQ.html; ComponentLink4Description: MF05A Package Page; ComponentLink4URL: http://www.national.com/packaging/folders/mf05a.html
footprint MF05A_N (SOT23, 5-Leads, Body 2.9x1.6mm, Pitch 0.95mm, Lead Span 2.8mm, IPC Medium Density)
footprint MF05A_L (SOT23, 5-Leads, Body 2.9x1.6mm, Pitch 0.95mm, Lead Span 2.8mm, IPC High Density)
footprint MF05A_M (SOT23, 5-Leads, Body 2.9x1.6mm, Pitch 0.95mm, Lead Span 2.8mm, IPC Low Density)
pins: 1 VDD (power), 2 GND (power), 3 IN+ (in), 4 IN- (in), 5 TTL OUT (out)

## DS90LT012ATMF
designator U?
3V LVDS Single CMOS Differential Line Receiver, 5-pin SOT-23; PartNumber: DS90LT012ATMF; Manufacturer: National Semiconductor; PackageTopMarking: N03*XTT; PowerWise: N; CompType: Interface IC; High-Reliability: Y; DatasheetVersion: Mar-2008; PackageVersion: revD, Aug-2008; PackageReference: MF05A; PackageDescription: Molded SOT-23, .115 x .063 x .040 in Body, 5 Lead, .0375 in Pitch; RoHS: N; PinCount: 5; ComponentLink1Description: Manufacturer URL; ComponentLink1URL: http://www.national.com/; ComponentLink2Description: DS90LT012A Datasheet; ComponentLink2URL: http://www.national.com/ds/DS/DS90LT012A.pdf; ComponentLink3Description: DS90LT012A Web Page; ComponentLink3URL: http://www.national.com/pf/DS/DS90LT012A.html; ComponentLink4Description: MF05A Package Page; ComponentLink4URL: http://www.national.com/packaging/folders/mf05a.html
footprint MF05A_N (SOT23, 5-Leads, Body 2.9x1.6mm, Pitch 0.95mm, Lead Span 2.8mm, IPC Medium Density)
footprint MF05A_L (SOT23, 5-Leads, Body 2.9x1.6mm, Pitch 0.95mm, Lead Span 2.8mm, IPC High Density)
footprint MF05A_M (SOT23, 5-Leads, Body 2.9x1.6mm, Pitch 0.95mm, Lead Span 2.8mm, IPC Low Density)
pins: 1 VDD (power), 2 GND (power), 3 IN+ (in), 4 IN- (in), 5 TTL OUT (out)

## DS90LT012ATMF/NOPB
designator U?
3V LVDS Single CMOS Differential Line Receiver, 5-pin SOT-23, Pb-Free; PartNumber: DS90LT012ATMF/NOPB; Manufacturer: National Semiconductor; PackageTopMarking: N03*XTT; PowerWise: N; CompType: Interface IC; High-Reliability: Y; DatasheetVersion: Mar-2008; PackageVersion: revD, Aug-2008; PackageReference: MF05A; PackageDescription: Molded SOT-23, .115 x .063 x .040 in Body, 5 Lead, .0375 in Pitch; RoHS: Y; PinCount: 5; ComponentLink1Description: Manufacturer URL; ComponentLink1URL: http://www.national.com/; ComponentLink2Description: DS90LT012A Datasheet; ComponentLink2URL: http://www.national.com/ds/DS/DS90LT012A.pdf; ComponentLink3Description: DS90LT012A Web Page; ComponentLink3URL: http://www.national.com/pf/DS/DS90LT012A.html; ComponentLink4Description: MF05A Package Page; ComponentLink4URL: http://www.national.com/packaging/folders/mf05a.html
footprint MF05A_N (SOT23, 5-Leads, Body 2.9x1.6mm, Pitch 0.95mm, Lead Span 2.8mm, IPC Medium Density)
footprint MF05A_L (SOT23, 5-Leads, Body 2.9x1.6mm, Pitch 0.95mm, Lead Span 2.8mm, IPC High Density)
footprint MF05A_M (SOT23, 5-Leads, Body 2.9x1.6mm, Pitch 0.95mm, Lead Span 2.8mm, IPC Low Density)
pins: 1 VDD (power), 2 GND (power), 3 IN+ (in), 4 IN- (in), 5 TTL OUT (out)

## DS90LV001TLD
designator U?
800 Mbps LVDS Buffer, 8-pin LLP; PartNumber: DS90LV001TLD; Manufacturer: National Semiconductor; PackageTopMarking: ZXYTT*001; PowerWise: N; CompType: Interface IC; High-Reliability: Y; DatasheetVersion: Feb-2008; PackageVersion: revC, Nov-2002; PackageReference: LDA08A; PackageDescription: LLP, Plastic, Dual, 3 x 3 x 0.75mm Body, 8 Lead, 0.5mm Pitch; RoHS: N; PinCount: 8; ComponentLink1Description: Manufacturer URL; ComponentLink1URL: http://www.national.com/; ComponentLink2Description: DS90LV001 Datasheet; ComponentLink2URL: http://www.national.com/ds/DS/DS90LV001.pdf; ComponentLink3Description: DS90LV001 Web Page; ComponentLink3URL: http://www.national.com/pf/DS/DS90LV001.html; ComponentLink4Description: LDA08A Package Page; ComponentLink4URL: http://www.national.com/packaging/folders/lda08a.html
footprint LDA08A (PSON, 8-Leads, Body 3x3mm, Pitch 0.5mm, NSC Recommended)
pins: 1 GND (power), 2 IN- (in), 3 IN+ (in), 4 NC, 5 VCC (power), 6 OUT+ (out), 7 OUT- (out), 8 EN (in), 9 GND (power)

## DS90LV001TLD/NOPB
designator U?
800 Mbps LVDS Buffer, 8-pin LLP, Pb-Free; PartNumber: DS90LV001TLD/NOPB; Manufacturer: National Semiconductor; PackageTopMarking: ZXYTT*001; PowerWise: N; CompType: Interface IC; High-Reliability: Y; DatasheetVersion: Feb-2008; PackageVersion: revC, Nov-2002; PackageReference: LDA08A; PackageDescription: LLP, Plastic, Dual, 3 x 3 x 0.75mm Body, 8 Lead, 0.5mm Pitch; RoHS: Y; PinCount: 8; ComponentLink1Description: Manufacturer URL; ComponentLink1URL: http://www.national.com/; ComponentLink2Description: DS90LV001 Datasheet; ComponentLink2URL: http://www.national.com/ds/DS/DS90LV001.pdf; ComponentLink3Description: DS90LV001 Web Page; ComponentLink3URL: http://www.national.com/pf/DS/DS90LV001.html; ComponentLink4Description: LDA08A Package Page; ComponentLink4URL: http://www.national.com/packaging/folders/lda08a.html
footprint LDA08A (PSON, 8-Leads, Body 3x3mm, Pitch 0.5mm, NSC Recommended)
pins: 1 GND (power), 2 IN- (in), 3 IN+ (in), 4 NC, 5 VCC (power), 6 OUT+ (out), 7 OUT- (out), 8 EN (in), 9 GND (power)

## DS90LV001TLDX
designator U?
800 Mbps LVDS Buffer, 8-pin LLP; PartNumber: DS90LV001TLDX; Manufacturer: National Semiconductor; PackageTopMarking: ZXYTT*001; PowerWise: N; CompType: Interface IC; High-Reliability: Y; DatasheetVersion: Feb-2008; PackageVersion: revC, Nov-2002; PackageReference: LDA08A; PackageDescription: LLP, Plastic, Dual, 3 x 3 x 0.75mm Body, 8 Lead, 0.5mm Pitch; RoHS: N; PinCount: 8; ComponentLink1Description: Manufacturer URL; ComponentLink1URL: http://www.national.com/; ComponentLink2Description: DS90LV001 Datasheet; ComponentLink2URL: http://www.national.com/ds/DS/DS90LV001.pdf; ComponentLink3Description: DS90LV001 Web Page; ComponentLink3URL: http://www.national.com/pf/DS/DS90LV001.html; ComponentLink4Description: LDA08A Package Page; ComponentLink4URL: http://www.national.com/packaging/folders/lda08a.html
footprint LDA08A (PSON, 8-Leads, Body 3x3mm, Pitch 0.5mm, NSC Recommended)
pins: 1 GND (power), 2 IN- (in), 3 IN+ (in), 4 NC, 5 VCC (power), 6 OUT+ (out), 7 OUT- (out), 8 EN (in), 9 GND (power)

## DS90LV001TM
designator U?
800 Mbps LVDS Buffer, 8-pin Narrow SOIC; PartNumber: DS90LV001TM; Manufacturer: National Semiconductor; PackageTopMarking: NSZXTT*LV001*TM; PowerWise: N; CompType: Interface IC; High-Reliability: Y; DatasheetVersion: Feb-2008; PackageVersion: revM, May-2009; PackageReference: M08A; PackageDescription: SOIC Narrow, 4.9 x 3.9 x 1.45mm, 8 Lead, 1.27mm Pitch; RoHS: N; PinCount: 8; Code_JEDEC: MS-012-AA; Code_IPC: SOIC127P600-8; ComponentLink1Description: Manufacturer URL; ComponentLink1URL: http://www.national.com/; ComponentLink2Description: DS90LV001 Datasheet; ComponentLink2URL: http://www.national.com/ds/DS/DS90LV001.pdf; ComponentLink3Description: DS90LV001 Web Page; ComponentLink3URL: http://www.national.com/pf/DS/DS90LV001.html; ComponentLink4Description: M08A Package Page; ComponentLink4URL: http://www.national.com/packaging/folders/m08a.html
footprint M08A_N (SOIC, 8-Leads, Body 4.9x3.9mm, Pitch 1.27mm, IPC Medium Density)
footprint M08A_L (SOIC, 8-Leads, Body 4.9x3.9mm, Pitch 1.27mm, IPC High Density)
footprint M08A_M (SOIC, 8-Leads, Body 4.9x3.9mm, Pitch 1.27mm, IPC Low Density)
pins: 1 GND (power), 2 IN- (in), 3 IN+ (in), 4 NC, 5 VCC (power), 6 OUT+ (out), 7 OUT- (out), 8 EN (in)

## DS90LV001TM/NOPB
designator U?
800 Mbps LVDS Buffer, 8-pin Narrow SOIC, Pb-Free; PartNumber: DS90LV001TM/NOPB; Manufacturer: National Semiconductor; PackageTopMarking: NSZXTT*LV001*TM; PowerWise: N; CompType: Interface IC; High-Reliability: Y; DatasheetVersion: Feb-2008; PackageVersion: revM, May-2009; PackageReference: M08A; PackageDescription: SOIC Narrow, 4.9 x 3.9 x 1.45mm, 8 Lead, 1.27mm Pitch; RoHS: Y; PinCount: 8; Code_JEDEC: MS-012-AA; Code_IPC: SOIC127P600-8; ComponentLink1Description: Manufacturer URL; ComponentLink1URL: http://www.national.com/; ComponentLink2Description: DS90LV001 Datasheet; ComponentLink2URL: http://www.national.com/ds/DS/DS90LV001.pdf; ComponentLink3Description: DS90LV001 Web Page; ComponentLink3URL: http://www.national.com/pf/DS/DS90LV001.html; ComponentLink4Description: M08A Package Page; ComponentLink4URL: http://www.national.com/packaging/folders/m08a.html
footprint M08A_N (SOIC, 8-Leads, Body 4.9x3.9mm, Pitch 1.27mm, IPC Medium Density)
footprint M08A_L (SOIC, 8-Leads, Body 4.9x3.9mm, Pitch 1.27mm, IPC High Density)
footprint M08A_M (SOIC, 8-Leads, Body 4.9x3.9mm, Pitch 1.27mm, IPC Low Density)
pins: 1 GND (power), 2 IN- (in), 3 IN+ (in), 4 NC, 5 VCC (power), 6 OUT+ (out), 7 OUT- (out), 8 EN (in)

## DS90LV001TMX
designator U?
800 Mbps LVDS Buffer, 8-pin Narrow SOIC; PartNumber: DS90LV001TMX; Manufacturer: National Semiconductor; PackageTopMarking: NSZXTT*LV001*TM; PowerWise: N; CompType: Interface IC; High-Reliability: Y; DatasheetVersion: Feb-2008; PackageVersion: revM, May-2009; PackageReference: M08A; PackageDescription: SOIC Narrow, 4.9 x 3.9 x 1.45mm, 8 Lead, 1.27mm Pitch; RoHS: N; PinCount: 8; Code_JEDEC: MS-012-AA; Code_IPC: SOIC127P600-8; ComponentLink1Description: Manufacturer URL; ComponentLink1URL: http://www.national.com/; ComponentLink2Description: DS90LV001 Datasheet; ComponentLink2URL: http://www.national.com/ds/DS/DS90LV001.pdf; ComponentLink3Description: DS90LV001 Web Page; ComponentLink3URL: http://www.national.com/pf/DS/DS90LV001.html; ComponentLink4Description: M08A Package Page; ComponentLink4URL: http://www.national.com/packaging/folders/m08a.html
footprint M08A_N (SOIC, 8-Leads, Body 4.9x3.9mm, Pitch 1.27mm, IPC Medium Density)
footprint M08A_L (SOIC, 8-Leads, Body 4.9x3.9mm, Pitch 1.27mm, IPC High Density)
footprint M08A_M (SOIC, 8-Leads, Body 4.9x3.9mm, Pitch 1.27mm, IPC Low Density)
pins: 1 GND (power), 2 IN- (in), 3 IN+ (in), 4 NC, 5 VCC (power), 6 OUT+ (out), 7 OUT- (out), 8 EN (in)

## DS90LV004TVS
designator U?
4-Channel LVDS Buffer/Repeaters with Pre-Emphasis, 48-pin TQFP; PartNumber: DS90LV004TVS; Manufacturer: National Semiconductor; PackageTopMarking: NSUZXYTT*DS90LV*004TVS; PowerWise: N; CompType: Interface IC; High-Reliability: Y; DatasheetVersion: Mar-2009; PackageVersion: revA, Apr-2000; PackageReference: VBC48A; PackageDescription: TQFP, Jedec Metric, 7 x 7 x 1mm, 48 Lead, 0.5mm Pitch; RoHS: N; PinCount: 48; Code_JEDEC: MS-026-ABC; ComponentLink1Description: Manufacturer URL; ComponentLink1URL: http://www.national.com/; ComponentLink2Description: DS90LV004 Datasheet; ComponentLink2URL: http://www.national.com/ds/DS/DS90LV004.pdf; ComponentLink3Description: DS90LV004 Web Page; ComponentLink3URL: http://www.national.com/pf/DS/DS90LV004.html; ComponentLink4Description: VBC48A Package Page; ComponentLink4URL: http://www.national.com/packaging/folders/vbc48a.html
footprint VBC48A_N (Thin QFP, 48-Leads, Body 7x7mm, Pitch 0.5mm, IPC Medium Density)
footprint VBC48A_L (Thin QFP, 48-Leads, Body 7x7mm, Pitch 0.5mm, IPC High Density)
footprint VBC48A_M (Thin QFP, 48-Leads, Body 7x7mm, Pitch 0.5mm, IPC Low Density)
part A pins: 1 PEM0 (in), 2 PEM1 (in), 12 ~{PWDN} (in), 13 IN0+ (in), 14 IN0- (in), 15 IN1+ (in), 16 IN1- (in), 19 IN2+ (in), 20 IN2- (in), 21 IN3+ (in), 22 IN3- (in), 39 OUT3- (out), 40 OUT3+ (out), 41 OUT2- (out), 42 OUT2+ (out), 45 OUT1- (out), 46 OUT1+ (out), 47 OUT0- (out), 48 OUT0+ (out)
part B pins: 3 VDD (power), 4 VDD (power), 5 VDD (power), 6 NC, 7 VDD (power), 8 GND (power), 9 GND (power), 10 VDD (power), 11 VDD (power), 17 GND (power), 18 GND (power), 23 GND (power), 24 GND (power), 25 GND (power), 26 GND (power), 27 VDD (power), 28 VDD (power), 29 VDD (power), 30 NC, 31 NC, 32 VDD (power), 33 VDD (power), 34 VDD (power), 35 NC, 36 NC, 37 GND (power), 38 GND (power), 43 GND (power), 44 GND (power)